# Altium footprint library SnapEDApcb.PcbLib: 1 footprints
Each footprint in its own frame and in the unit in brackets; x right, y up, seen from the top. Pads: shape width x height; smd on the part's side, far side on the other; paste and mask are expansions set on the pad; w line width, h text height; cw(c..) or ccw(c..) is an arc to the next point about the centre after c.
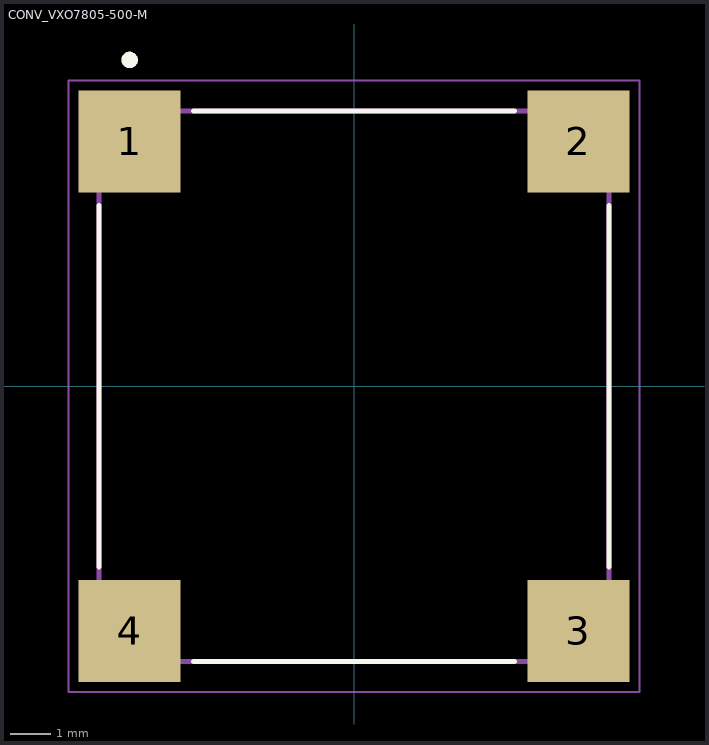
[diagram p0: the footprint, top view; thin cyan lines are the x and y axes]

## CONV_VXO7805-500-M [mm]
pads (4):
  rect 2.5x2.5 smd: 1(-5.5,6) 2(5.5,6) 3(5.5,-6) 4(-5.5,-6)
Top Overlay:
  circle w0.2: c-5.5,8 r0.1
  lines w0.127: -6.25,-4.43 -6.25,4.43 ; -3.93,-6.75 3.93,-6.75 ; -3.93,6.75 3.93,6.75 ; 6.25,-4.43 6.25,4.43
Mechanical 13:
  circle w0.2: c-5.5,8 r0.1
  lines w0.127: -6.25,-6.75 -6.25,6.75 6.25,6.75 6.25,-6.75 -6.25,-6.75
Mechanical 15:
  lines w0.05: -7,-7.5 -7,7.5 7,7.5 7,-7.5 -7,-7.5
3D body "CUI_VXO7805-500-M.step": height 2.1, standoff -1, extent -6.25,-6.75 6.25,6.75